# EAGLE library part MPC17531A (library freescale)
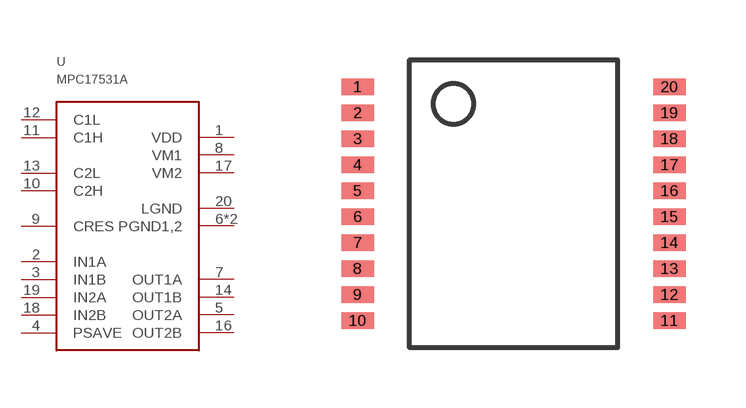
[diagram p13: symbol with the pads of SSOP_20; footprint SSOP_20]

Designator prefix -

## MPC17531A  [SSOP_20]
1  VDD
2  IN1A
3  IN1B
4  PSAVE
5  OUT2A
6  PGND1,2
7  OUT1A
8  VM1
9  CRES
10  C2H
11  C1H
12  C1L
13  C2L
14  OUT1B
15  PGND1,2
16  OUT2B
17  VM2
18  IN2B
19  IN2A
20  LGND

## Footprint SSOP_20 (pad centres in mm)
20-pin .65mm pitch/5.2mm body SMT
smd 0.813 x 0.406: 1 -3.9,2.925; 2 -3.9,2.275; 3 -3.9,1.625; 4 -3.9,0.975; 5 -3.9,0.325; 6 -3.9,-0.325; 7 -3.9,-0.975; 8 -3.9,-1.625; 9 -3.9,-2.275; 10 -3.9,-2.925; 11 3.9,-2.925; 12 3.9,-2.275; 13 3.9,-1.625; 14 3.9,-0.975; 15 3.9,-0.325; 16 3.9,0.325; 17 3.9,0.975; 18 3.9,1.625; 19 3.9,2.275; 20 3.9,2.925